# EAGLE library part RELAY_2FORMC (library Dal_V2)
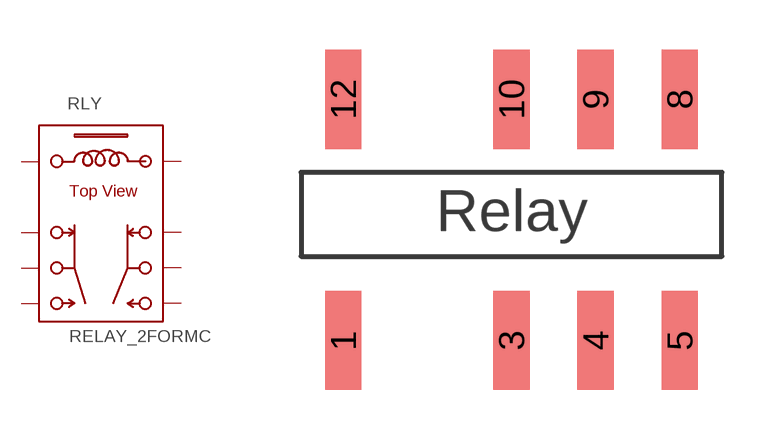
[diagram p12: symbol with the pads of RELAY_SMD_EE2; footprint RELAY_SMD_EE2]

Designator prefix RLY

## RELAY_2FORMC  [RELAY_SMD_EE2]
1  P$1  pas
3  P$3  pas
4  P$4  pas
5  P$5  pas
8  P$8  pas
9  P$9  pas
10  P$10  pas
12  P$12  pas

## Footprint RELAY_SMD_EE2 (pad centres in mm)
Pin header, SMT, 0.05 Pitch, 2x5
smd 1.1 x 3: 1 0,0; 3 5.08,0; 4 7.62,0; 5 10.16,0; 8 10.16,7.29; 9 7.62,7.29; 10 5.08,7.29; 12 0,7.29